# EAGLE library part DIP-8POS (library switch-jqi)
CHP series 8 position DIP switch, SPST
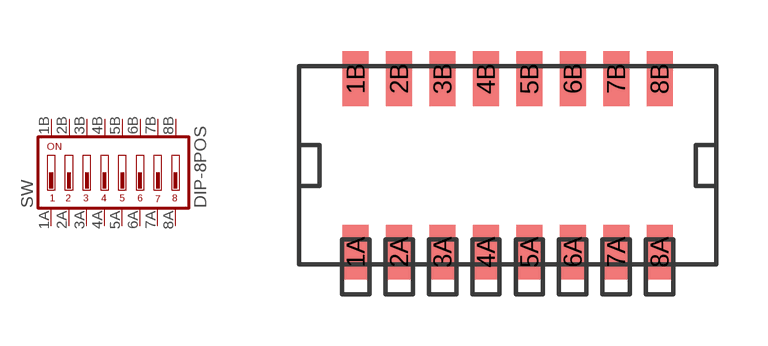
[diagram p1: symbol with the pads of CHP-081_A; footprint CHP-081_A]

Designator prefix SW

## DIP-8POS  [CHP-081_A]
1A  1A  pas
1B  1B  pas
2A  2A  pas
2B  2B  pas
3A  3A  pas
3B  3B  pas
4A  4A  pas
4B  4B  pas
5A  5A  pas
5B  5B  pas
6A  6A  pas
6B  6B  pas
7A  7A  pas
7B  7B  pas
8A  8A  pas
8B  8B  pas

## Footprint CHP-081_A (pad centres in mm)
smd 0.76 x 1.6: 1A -4.445,-2.54; 1B -4.445,2.54; 2A -3.175,-2.54; 2B -3.175,2.54; 3A -1.905,-2.54; 3B -1.905,2.54; 4A -0.635,-2.54; 4B -0.635,2.54; 5A 0.635,-2.54; 5B 0.635,2.54; 6A 1.905,-2.54; 6B 1.905,2.54; 7A 3.175,-2.54; 7B 3.175,2.54; 8A 4.445,-2.54; 8B 4.445,2.54